# EAGLE library part TPS5410D (library Deegou_IC)
TPS5410D, Switching Regulator, Buck Controller, 1A, Adjustable, 1.22V min., 600kHz, 8-Pin SOIC Source: Datasheet <http://www.ti.com/lit/ds/symlink/tps5410.pdf>
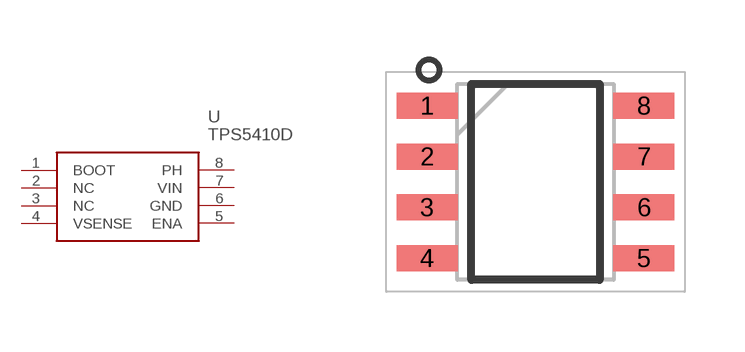
[diagram p152: symbol with the pads of SOIC127P600X175-8N; footprint SOIC127P600X175-8N]

Designator prefix U

## TPS5410D (ARROW_PART_NUMBER: TPS5410D; ARROW_PRICE-STOCK: https://www.arrow.com/en/products/tps5410d/texas-instruments; DESCRIPTION: TPS5410D, Switching Regulator, Buck Controller, 1A, Adjustable, 1.22V min., 600kHz, 8-Pin SOIC; HEIGHT: 1.75mm; MANUFACTURER_NAME: Texas Instruments; MANUFACTURER_PART_NUMBER: TPS5410D; RS_PART_NUMBER: 0389340P; RS_PRICE-STOCK: http://uk.rs-online.com/web/p/products/0389340P)  [SOIC127P600X175-8N]
1  BOOT
2  NC  nc
3  NC
4  VSENSE
5  ENA
6  GND  pwr
7  VIN  in
8  PH

## Footprint SOIC127P600X175-8N (pad centres in mm)
SOIC (D)(2)
smd 1.525 x 0.65: 1 -2.712,1.905; 2 -2.712,0.635; 3 -2.712,-0.635; 4 -2.712,-1.905; 5 2.712,-1.905; 6 2.712,-0.635; 7 2.712,0.635; 8 2.712,1.905